# EAGLE library part AD831 (library analog-devices-dds)
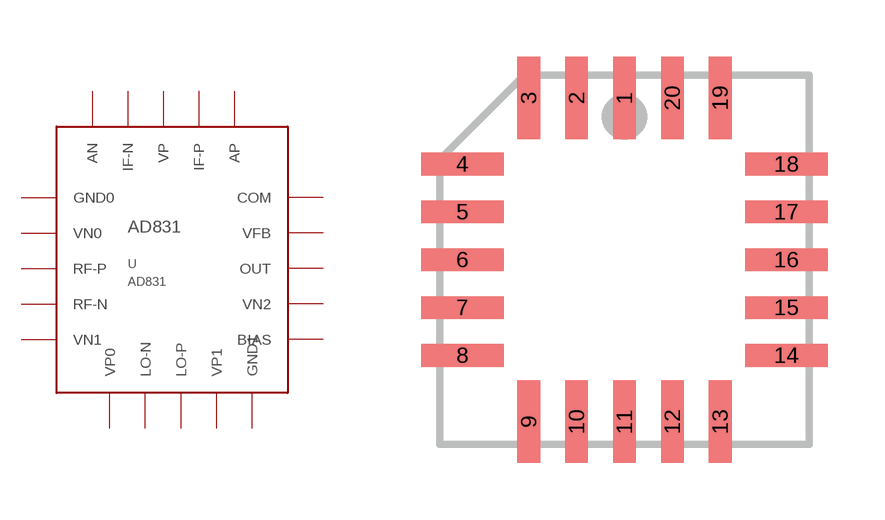
[diagram p1: symbol with the pads of PLCC20S; footprint PLCC20S]

Designator prefix -

## AD831  [PLCC20S]
1  VP
2  IF-N
3  AN
4  GND0
5  VN0
6  RF-P
7  RF-N
8  VN1
9  VP0
10  LO-N
11  LO-P
12  VP1
13  GND1
14  BIAS
15  VN2
16  OUT
17  VFB
18  COM
19  AP
20  IF-P

## Footprint PLCC20S (pad centres in mm)
PLASTIC LEADED CHIP CARRIER square, package type L
smd 0.6 x 2.2: 1 0,4.3; 2 -1.27,4.3; 3 -2.54,4.3; 9 -2.54,-4.3; 10 -1.27,-4.3; 11 0,-4.3; 12 1.27,-4.3; 13 2.54,-4.3; 19 2.54,4.3; 20 1.27,4.3
smd 2.2 x 0.6: 4 -4.3,2.54; 5 -4.3,1.27; 6 -4.3,0; 7 -4.3,-1.27; 8 -4.3,-2.54; 14 4.3,-2.54; 15 4.3,-1.27; 16 4.3,0; 17 4.3,1.27; 18 4.3,2.54